# EAGLE library part ARDUINO_FIO (library Componentes_PCB_vivero)
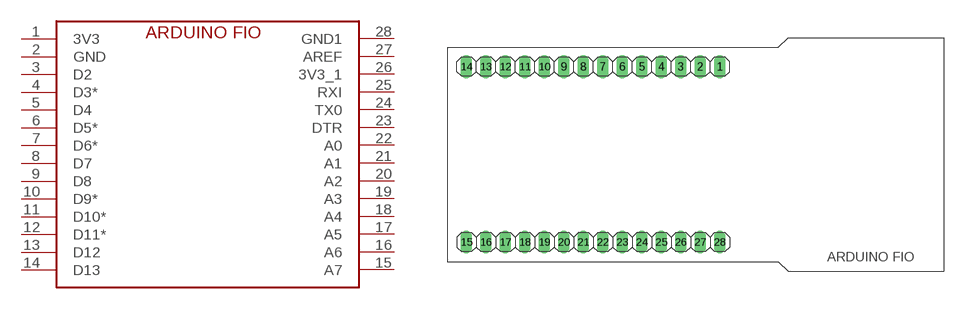
[diagram p3: symbol with the pads of ARDUINO_FIO_SOCKET; footprint ARDUINO_FIO_SOCKET]

Designator prefix B

## ARDUINO_FIO  [ARDUINO_FIO_SOCKET]
1  3V3  pas
2  GND  pas
3  D2  pas
4  D3*  pas
5  D4  pas
6  D5*  pas
7  D6*  pas
8  D7  pas
9  D8  pas
10  D9*  pas
11  D10*  pas
12  D11*  pas
13  D12  pas
14  D13  pas
15  A7  pas
16  A6  pas
17  A5  pas
18  A4  pas
19  A3  pas
20  A2  pas
21  A1  pas
22  A0  pas
23  DTR  pas
24  TX0  pas
25  RXI  pas
26  3V3_1  pas
27  AREF  pas
28  GND1  pas

## Footprint ARDUINO_FIO_SOCKET (pad centres in mm)
PIN SOCKET FOR ARDUINO FIO BOARD
drill 1.016 long: 1 16.51,22.86; 2 13.97,22.86; 3 11.43,22.86; 4 8.89,22.86; 5 6.35,22.86; 6 3.81,22.86; 7 1.27,22.86; 8 -1.27,22.86; 9 -3.81,22.86; 10 -6.35,22.86; 11 -8.89,22.86; 12 -11.43,22.86; 13 -13.97,22.86; 14 -16.51,22.86; 15 -16.51,0; 16 -13.97,0; 17 -11.43,0; 18 -8.89,0; 19 -6.35,0; 20 -3.81,0; 21 -1.27,0; 22 1.27,0; 23 3.81,0; 24 6.35,0; 25 8.89,0; 26 11.43,0; 27 13.97,0; 28 16.51,0